# Altium schematic symbol library Schlib1 (2).SchLib: 17 symbols
Pins are listed as number, name and electrical type; pins without a type are passive.

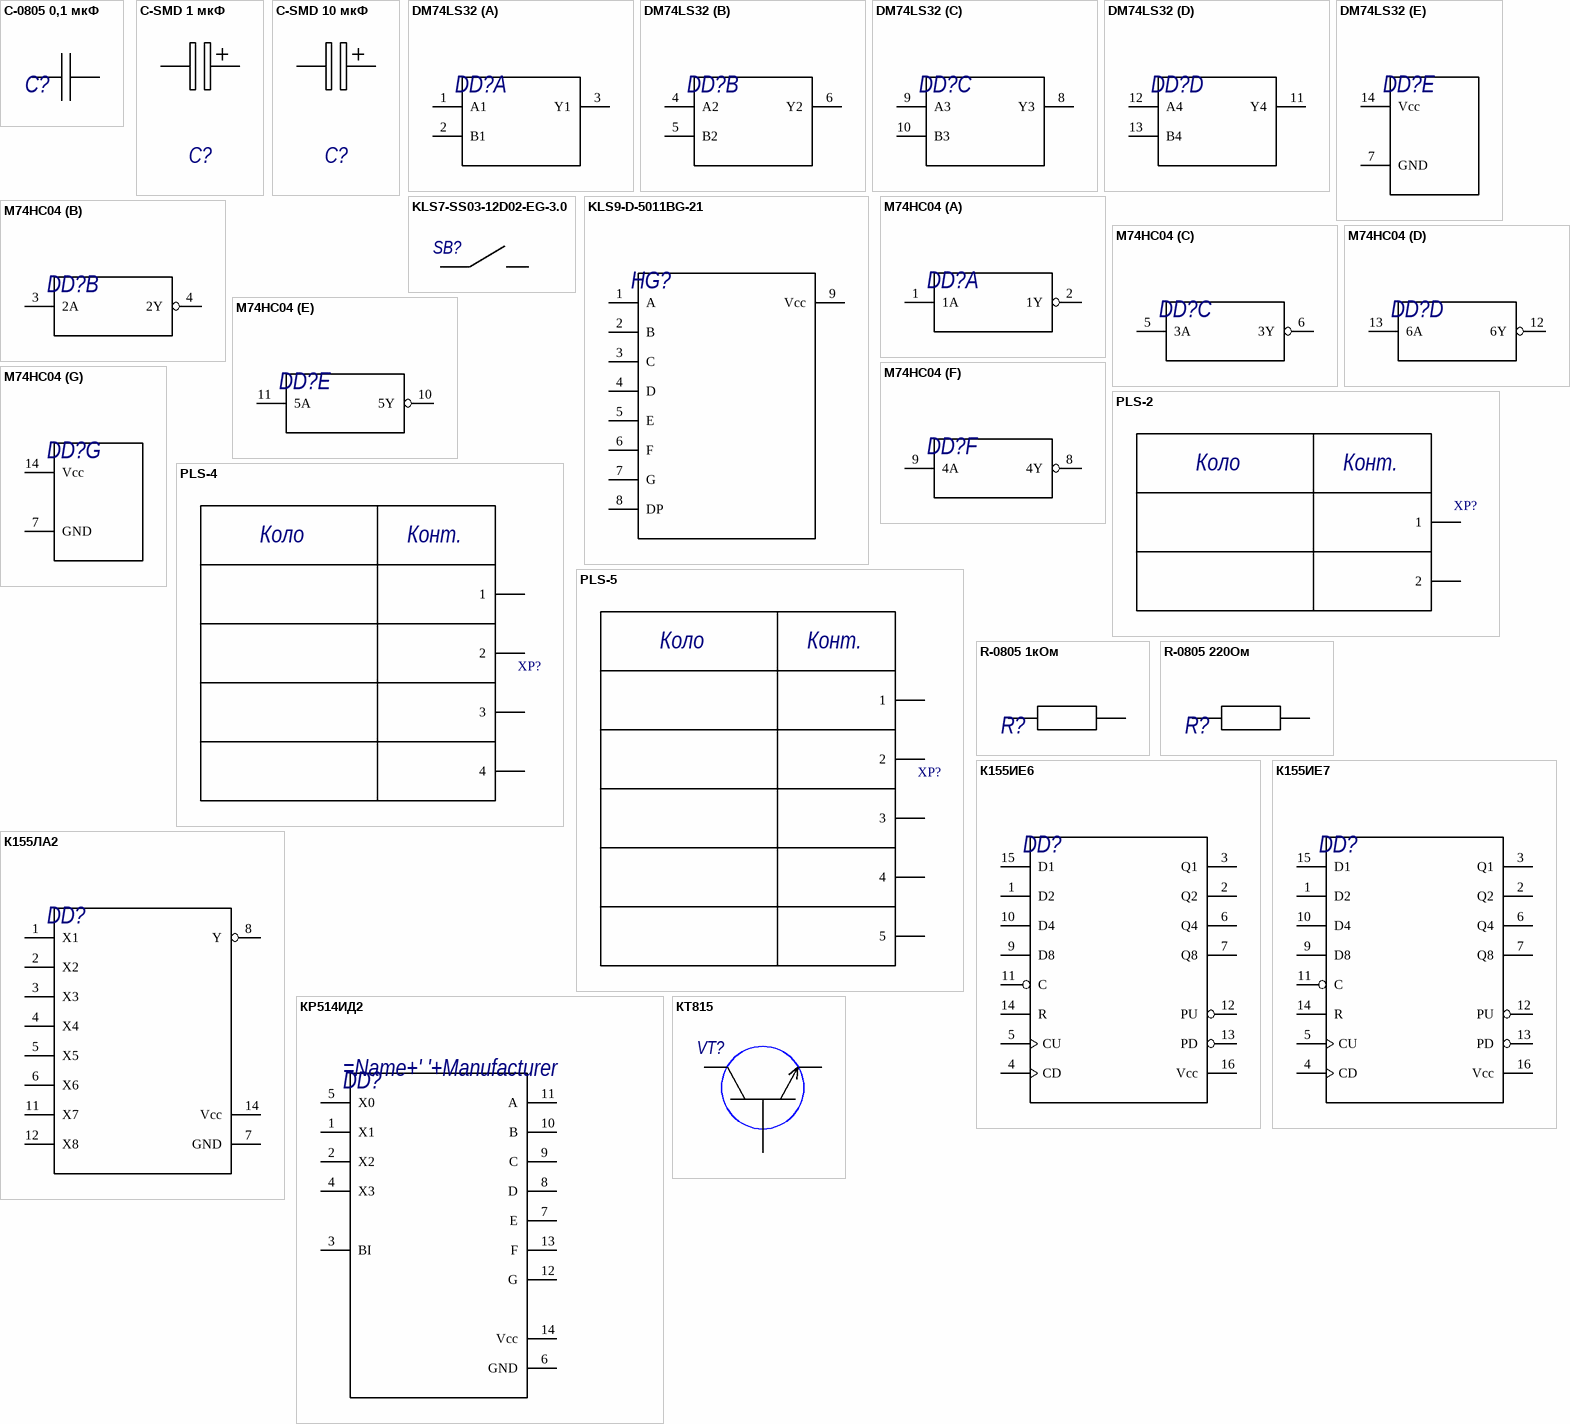
[diagram p0: symbols C-0805 0,1 мкФ to КТ815]

## C-0805 0,1 мкФ
designator С?, comment C-0805 25 В 0,1 мкФ 5% x7r Taivan  (value not drawn)
C-0805 0,1 мкФ; Voltage: 25 В; Value: 0,1 мкФ; Package: C-0805; Tolerance: 5%; Temp_coef: x7r; Manufacturer: Taivan; ComponentLink1Description: Link; ComponentLink1URL: https://www.chipdip.ru/product0/43780
pins: 1, 2

## C-SMD 1 мкФ
designator C?, comment С-SMD 16 В 1 мкФ 20% * JB  (value not drawn)
C-SMD 1 мкФ; Value: 1 мкФ; Voltage: 16 В; Package: С-SMD; Temp_Coef: *; Tolerance: 20%; Manufacturer: JB; ComponentLink1Description: Link; ComponentLink1URL: https://www.chipdip.ru/product0/9000565712
pins: 1, 2

## C-SMD 10 мкФ
designator C?, comment С-SMD 16 В 10 мкФ 20% * JB  (value not drawn)
C-SMD 10 мкФ; Value: 10 мкФ; Voltage: 16 В; Package: С-SMD; Temp_Coef: *; Tolerance: 20%; Manufacturer: JB; ComponentLink1Description: Link; ComponentLink1URL: https://www.chipdip.ru/product0/9000565715
pins: 1, 2

## DM74LS32
designator DD?, comment DM74LS32 Fairchild  (value not drawn)
DM74LS32; Name: DM74LS32; Manufacturer: Fairchild; ComponentLink1Description: Link; ComponentLink1URL: http://www.radioradar.net/datasheet_search/7/4/3/7432_FairchildSemiconductor.pdf.html
part A pins: 1 A1, 2 B1, 3 Y1
part B pins: 4 A2, 5 B2, 6 Y2
part C pins: 8 Y3, 9 A3, 10 B3
part D pins: 11 Y4, 12 A4, 13 B4
part E pins: 7 GND, 14 Vcc

## KLS7-SS03-12D02-EG-3.0
designator SB?, comment KLS7-SS03-12D02-EG-3.0 KLS electronic co ltd  (value not drawn)
KLS7-SS03-12D02-EG-3.0; Name: KLS7-SS03-12D02-EG-3.0; Manufacturer: KLS electronic co ltd; ComponentLink1Description: Link; ComponentLink1URL: https://www.chipdip.ru/product/kls7-ss03-12d02-eg-3.0
pins: 1, 2

## KLS9-D-5011BG-21
designator HG?, comment KLS9-D-5011BG-21 KLS  (value not drawn)
KLS9-D-5011BG-21; Name: KLS9-D-5011BG-21; ComponentLink1Description: Link; ComponentLink1URL: https://asenergi.com/catalog/cifrovye-indikatory/indikator-7-segment.html; Manufacturer: KLS
pins: 1 A, 2 B, 3 C, 4 D, 5 E, 6 F, 7 G, 8 DP, 9 Vcc

## M74HC04
designator DD?, comment M74HC04 SGS-THOMSON MICROELECTRONICS  (value not drawn)
M74HC04; Name: M74HC04; Manufacturer: SGS-THOMSON MICROELECTRONICS; ComponentLink1Description: Link; ComponentLink1URL: http://www.radioradar.net/datasheet_search/7/4/0/7404_STMicroelectronics.pdf.html
part A pins: 1 1A, 2 1Y
part B pins: 3 2A, 4 2Y
part C pins: 5 3A, 6 3Y
part D pins: 12 6Y, 13 6A
part E pins: 10 5Y, 11 5A
part F pins: 8 4Y, 9 4A
part G pins: 7 GND, 14 Vcc

## PLS-2
designator XP?, comment PLS-2 Ningbo Zhenqin Electronic  (value not drawn)
PLS-2; Manufacturer: Ningbo Zhenqin Electronic; Name: PLS-2
pins: 1, 2
text: Коло; Конт.

## PLS-4
designator XP?, comment PLS-4 Ningbo Zhenqin Electronic  (value not drawn)
PLS-4; Manufacturer: Ningbo Zhenqin Electronic; Name: PLS-4
pins: 1, 2, 3, 4
text: Коло; Конт.

## PLS-5
designator XP?, comment PLS-5 Ningbo Zhenqin Electronic  (value not drawn)
PLS-5; Manufacturer: Ningbo Zhenqin Electronic; Name: PLS-5
pins: 1, 2, 3, 4, 5
text: Коло; Конт.

## R-0805 1кОм
designator R?, comment R-0805 0.125 Вт 1 кОм 5% Taivan  (value not drawn)
R-0805; Value: 1 кОм; Package: R-0805; Power: 0.125 Вт; Tolerance: 5%; Manufacturer: Taivan; ComponentLink1Description: Link; ComponentLink1URL: https://www.chipdip.ru/product0/843440046
pins: 1, 2

## R-0805 220Ом
designator R?, comment R-0805 0.125 Вт 220 Ом 5% Taivan  (value not drawn)
R-0805; Value: 220 Ом; Package: R-0805; Power: 0.125 Вт; Tolerance: 5%; Manufacturer: Taivan; ComponentLink1Description: Link; ComponentLink1URL: https://www.chipdip.ru/product0/445051423
pins: 1, 2

## К155ИЕ6
designator DD?
К155ИЕ6; Name: К155ИЕ6; ComponentLink1Description: Link; ComponentLink1URL: https://eandc.ru/pdf/mikroskhema/k155ie6.pdf
pins: 1 D2, 2 Q2, 3 Q1, 4 CD, 5 CU, 6 Q4, 7 Q8, 9 D8, 10 D4, 11 C, 12 PU, 13 PD, 14 R, 15 D1, 16 Vcc

## К155ИЕ7
designator DD?
К155ИЕ7; Name: К155ИЕ7; ComponentLink1Description: Link; ComponentLink1URL: https://eandc.ru/pdf/mikroskhema/k155ie7.pdf
pins: 1 D2, 2 Q2, 3 Q1, 4 CD, 5 CU, 6 Q4, 7 Q8, 9 D8, 10 D4, 11 C, 12 PU, 13 PD, 14 R, 15 D1, 16 Vcc

## К155ЛА2
designator DD?
К155ЛА2; Name: К155ЛА2; ComponentLink1Description: Link; ComponentLink1URL: http://radio-uchebnik.ru/microbase/8-mikroskhemy-otechestvennye/360-k155la2
pins: 1 X1, 2 X2, 3 X3, 4 X4, 5 X5, 6 X6, 7 GND, 8 Y, 11 X7, 12 X8, 14 Vcc

## КР514ИД2
designator DD?
КР514ИД2; Name: КР514ИД2; ComponentLink1Description: Link; ComponentLink1URL: http://tec.org.ru/board/is_upravlenija_indikaciej/273-1-0-470
pins: 1 X1, 2 X2, 3 BI, 4 X3, 5 X0, 6 GND, 7 E, 8 D, 9 C, 10 B, 11 A, 12 G, 13 F, 14 Vcc

## КТ815
designator VT?
КТ815; Name: КТ815
pins: 1, 2, 3